# EAGLE library part 74*646 (library 74xx-eu)
HCT646 OCTAL BUS TRANSCEIVER/REGISTER (3-STATE)
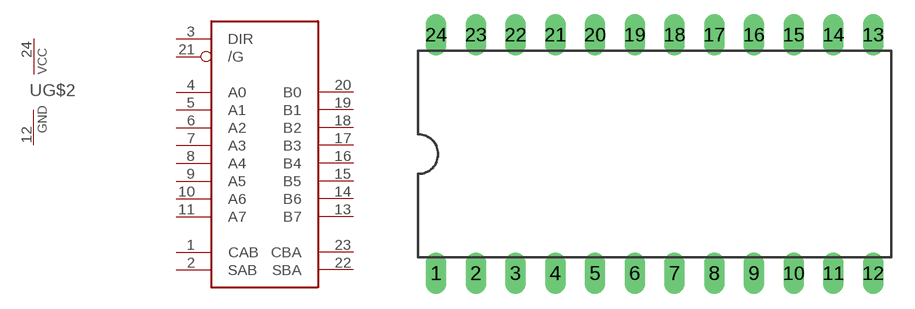
[diagram p334: symbol with the pads of DIL24-6; footprint DIL24-6]

Designator prefix -; gates G$1=74646 G$2=PWRN

## 74646, 74HCT646  [DIL24-6]
1  G$1:CAB  in
2  G$1:SAB  in
3  G$1:DIR  in
4  G$1:A0
5  G$1:A1
6  G$1:A2
7  G$1:A3
8  G$1:A4
9  G$1:A5
10  G$1:A6
11  G$1:A7
12  G$2:GND  pwr
13  G$1:B7
14  G$1:B6
15  G$1:B5
16  G$1:B4
17  G$1:B3
18  G$1:B2
19  G$1:B1
20  G$1:B0
21  G$1:/G  in
22  G$1:SBA  in
23  G$1:CBA  in
24  G$2:VCC  pwr

## Footprint DIL24-6 (pad centres in mm)
Dual In Line Package 0.6 inch
drill 0.813 long: 1 -13.97,-7.62; 2 -11.43,-7.62; 3 -8.89,-7.62; 4 -6.35,-7.62; 5 -3.81,-7.62; 6 -1.27,-7.62; 7 1.27,-7.62; 8 3.81,-7.62; 9 6.35,-7.62; 10 8.89,-7.62; 11 11.43,-7.62; 12 13.97,-7.62; 13 13.97,7.62; 14 11.43,7.62; 15 8.89,7.62; 16 6.35,7.62; 17 3.81,7.62; 18 1.27,7.62; 19 -1.27,7.62; 20 -3.81,7.62; 21 -6.35,7.62; 22 -8.89,7.62; 23 -11.43,7.62; 24 -13.97,7.62